# Altium schematic symbol library GRM0335C1E3R3BA01D.SchLib: 1 symbol
Pins are listed as number, name and electrical type; pins without a type are passive.

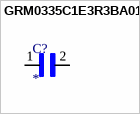
[diagram p0: symbol GRM0335C1E3R3BA01D]

## GRM0335C1E3R3BA01D
designator C?
SMD Capacitor C0G(EIA) with Capacitance: 3.3pF Tol. 0.1pF. Rated Voltage: 25Vdc; MP: GRM0335C1E3R3BA01D; Package: None; Price: None; Value: *; Availability: Unavailable
footprint CAPC0603X33N
pins: 1, 2